# Altium footprint library 1241160111.PcbLib: 1 footprints
Each footprint in its own frame and in the unit in brackets; x right, y up, seen from the top. Pads: shape width x height; smd on the part's side, far side on the other; paste and mask are expansions set on the pad; w line width, h text height; cw(c..) or ccw(c..) is an arc to the next point about the centre after c.
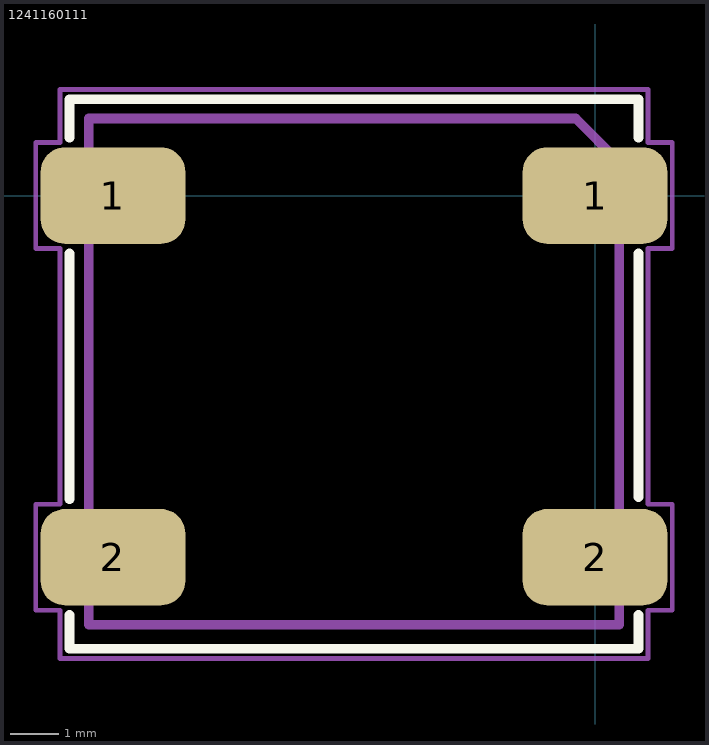
[diagram p0: the footprint, top view; thin cyan lines are the x and y axes]

## 1241160111 [mm]
pads (4):
  rrect50% 3x2 smd mask+0: 1(-10,0) 1(0,0) 2(-10,-7.5) 2(0,-7.5)
Top Overlay:
  lines w0.2: -10.9,-8.7 -10.9,-9.4 0.9,-9.4 0.9,-8.7 ; -10.9,-6.3 -10.9,-1.2 ; -10.9,1.2 -10.9,2 0.9,2 0.9,1.2 ; 0.9,-6.25 0.9,-1.2
Mechanical 3:
  lines w0.2: -10.5,-8.9 -10.5,1.6 -0.4,1.6 0.5,0.7 0.5,-5.9 0.5,-8.9 -10.5,-8.9
Mechanical 7:
  lines w0.1: -11.6,-7.6 -11.6,-6.4 -11.1,-6.4 -11.1,-1.1 -11.6,-1.1 -11.6,1.1 -11.1,1.1 -11.1,2.2 1.1,2.2 1.1,1.1 1.6,1.1 1.6,-1.1 1.1,-1.1 1.1,-6.4 1.6,-6.4 1.6,-8.6 1.1,-8.6 1.1,-9.6 -11.1,-9.6 -11.1,-8.6 -11.6,-8.6 -11.6,-7.5
3D body "1241.1601.STEP": height 4.86, standoff 0.01, extent -10.9,-9.45 0.9,1.95
3D body: height 4.7, standoff 0, extent -11.6,-9.6 1.6,2.2